# Altium schematic symbol library Düzenleyici Potansiyometre.SchLib: 1 symbol
Pins are listed as number, name and electrical type; pins without a type are passive.

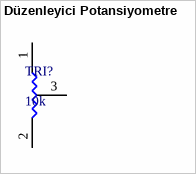
[diagram p0: symbol Düzenleyici Potansiyometre]

## Düzenleyici Potansiyometre
designator TRI?, comment 10k
footprint Düzenleyici Potansiyometre
pins: 1, 2, 3